# Altium footprint library Aristuino_pinout_final2.PcbLib: 1 footprints
Each footprint in its own frame and in the unit in brackets; x right, y up, seen from the top. Pads: shape width x height; smd on the part's side, far side on the other; paste and mask are expansions set on the pad; w line width, h text height; cw(c..) or ccw(c..) is an arc to the next point about the centre after c.
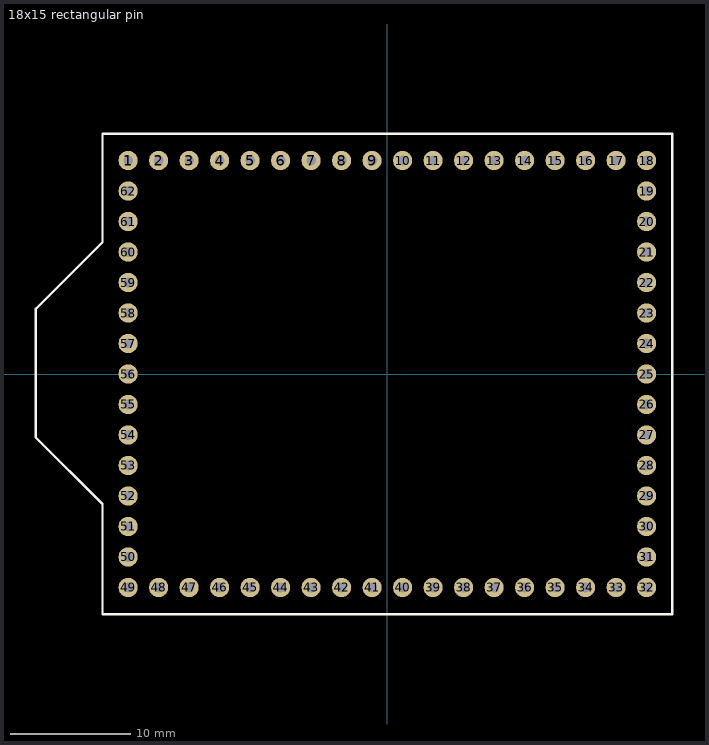
[diagram p0: the footprint, top view; thin cyan lines are the x and y axes]

## 18x15 rectangular pin [mm]
pads (62):
  round 1.6 hole 0.8: 1(-21.59,17.78) 2(-19.05,17.78) 3(-16.51,17.78) 4(-13.97,17.78) 5(-11.43,17.78) 6(-8.89,17.78) 7(-6.35,17.78) 8(-3.81,17.78) 9(-1.27,17.78) 10(1.27,17.78) 11(3.81,17.78) 12(6.35,17.78) 13(8.89,17.78) 14(11.43,17.78) 15(13.97,17.78) 16(16.51,17.78) 17(19.05,17.78) 18(21.59,17.78) 19(21.59,15.24) 20(21.59,12.7) 21(21.59,10.16) 22(21.59,7.62) 23(21.59,5.08) 24(21.59,2.54) 25(21.59,0) 26(21.59,-2.54) 27(21.59,-5.08) 28(21.59,-7.62) 29(21.59,-10.16) 30(21.59,-12.7) 31(21.59,-15.24) 32(21.59,-17.78) 33(19.05,-17.78) 34(16.51,-17.78) 35(13.97,-17.78) 36(11.43,-17.78) 37(8.89,-17.78) 38(6.35,-17.78) 39(3.81,-17.78) 40(1.27,-17.78) 41(-1.27,-17.78) 42(-3.81,-17.78) 43(-6.35,-17.78) 44(-8.89,-17.78) 45(-11.43,-17.78) 46(-13.97,-17.78) 47(-16.51,-17.78) 48(-19.05,-17.78) 49(-21.59,-17.78) 50(-21.59,-15.24) 51(-21.59,-12.7) 52(-21.59,-10.16) 53(-21.59,-7.62) 54(-21.59,-5.08) 55(-21.59,-2.54) 56(-21.59,0) 57(-21.59,2.54) 58(-21.59,5.08) 59(-21.59,7.62) 60(-21.59,10.16) 61(-21.59,12.7) 62(-21.59,15.24)
Top Overlay:
  lines w0.2: -29.275,-5.28 -29.275,5.42 -23.725,10.97 -23.725,20 23.725,20 23.725,-20 -23.725,-20 -23.725,-10.83 -29.275,-5.28
3D body "Aristuino.step": height 17.95, standoff 1.48, extent -29.563,-19.939 23.622,20.061